# Altium footprint library 1726480103.PcbLib: 1 footprints
Each footprint in its own frame and in the unit in brackets; x right, y up, seen from the top. Pads: shape width x height; smd on the part's side, far side on the other; paste and mask are expansions set on the pad; w line width, h text height; cw(c..) or ccw(c..) is an arc to the next point about the centre after c.
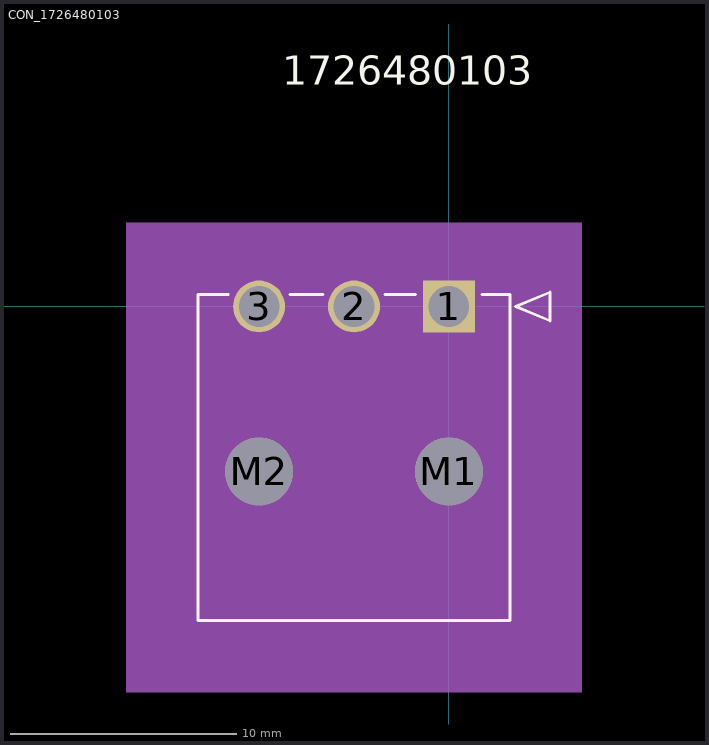
[diagram p0: the footprint, top view; thin cyan lines are the x and y axes]

## CON_1726480103 [mm]
pads (5):
  rect 2.3x2.3 hole 1.8 mask+0.076: 1(0,0)
  round 2.3 hole 1.8 mask+0.076: 2(-4.2,0) 3(-8.4,0)
  round 3 hole 3 unplated mask+0.076: M1(0,-7.3) M2(-8.4,-7.3)
Top Overlay:
  lines w0.127: -9.769,0.535 -11.1,0.535 -11.1,-13.9 2.7,-13.9 2.7,0.535 1.47,0.535 ; -7.031,0.535 -5.569,0.535 ; -2.831,0.535 -1.47,0.535 ; 2.954,0 4.478,0.635 4.478,-0.635 2.954,0
  text "1726480103" at -7.375,9.828 h1.27
Mechanical 3:
  text "PTH_DRILL_SIZE:_1.8_MM,_TOL:_+0.05/-0.05" at -16.9,-20.652 h1.27
  text "NPTH_DRILL_SIZE:_3.0_MM,_TOL:_+0.05/-0.05" at -17.217,-23.192 h1.27
Mechanical 5:
  region: -14.275,3.71 5.875,3.71 5.875,-17.075 -14.275,-17.075
Mechanical 10:
  text "PTH_DRILL_SIZE:_1.8_MM,_TOL:_+0.05/-0.05" at -16.9,-20.652 h1.27
  text "NPTH_DRILL_SIZE:_3.0_MM,_TOL:_+0.05/-0.05" at -17.217,-23.192 h1.27
Mechanical 13:
  lines w0.127: -11.1,-13.9 2.7,-13.9 2.7,0.535 -11.1,0.535 -11.1,-13.9 ; 2.954,0 4.478,0.635 4.478,-0.635 2.954,0
  text "1726480103" at -7.375,9.828 h1.27
Mechanical 15:
  region: 3.97,1.805 -12.37,1.805 -12.37,-15.17 3.97,-15.17
  lines w0.127: -12.37,-15.17 -12.37,1.805 3.97,1.805 3.97,-15.17 -12.37,-15.17
3D body: height 0.25, standoff 0, extent 0,0 0.254,0.254